# Altium footprint library Connectors.PcbLib: 24 footprints (part 2 of 2)
Each footprint in its own frame and in the unit in brackets; x right, y up, seen from the top. Pads: shape width x height; smd on the part's side, far side on the other; paste and mask are expansions set on the pad; w line width, h text height; cw(c..) or ccw(c..) is an arc to the next point about the centre after c.
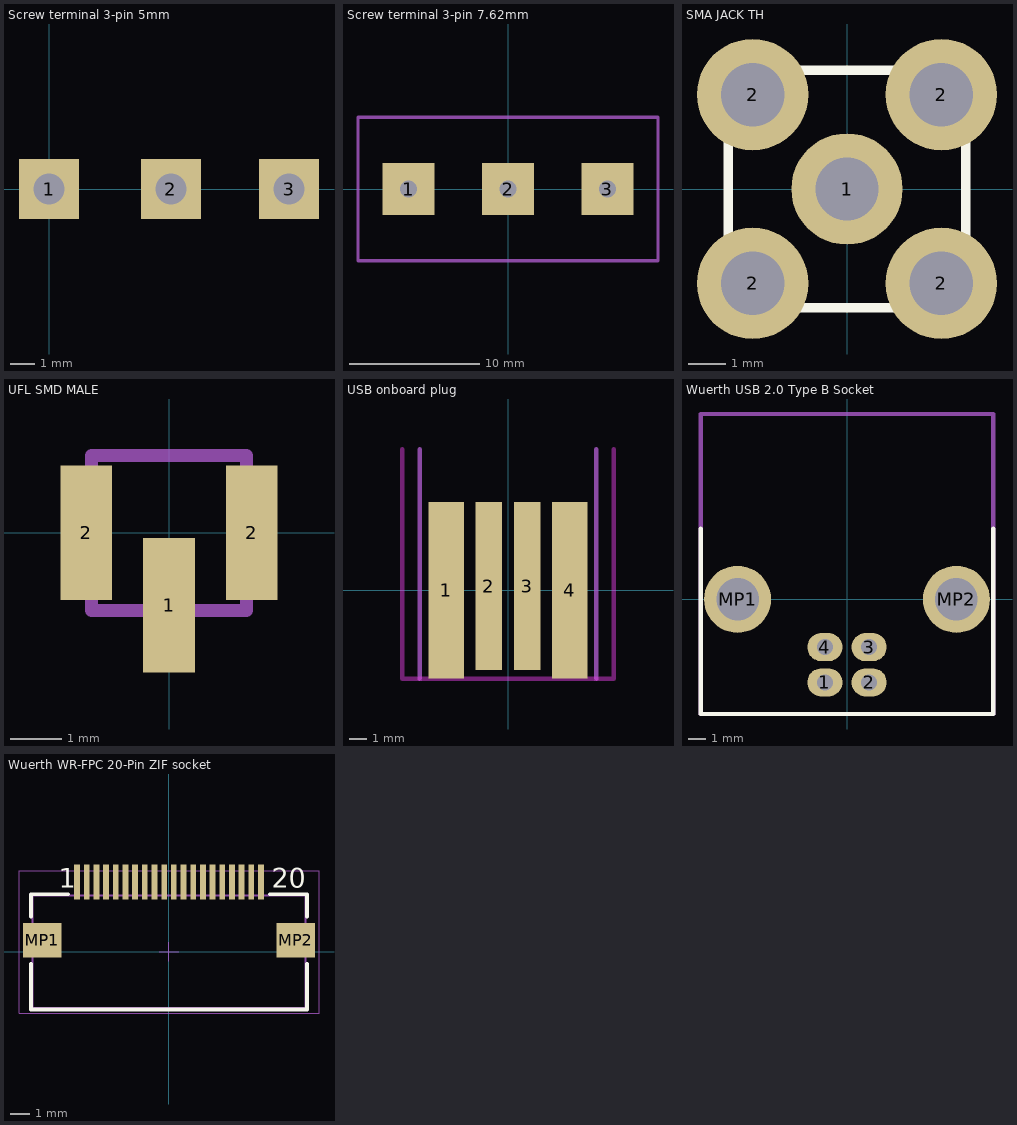
[diagram p1: the footprints below, top view; thin cyan lines are the x and y axes]

## Screw terminal 3-pin 5mm [mm] "DG301-5.0-03"
pads (3):
  rect 2.5x2.5 hole 1.3: 1(0,0) 2(5.08,0) 3(10,0)
3D body: height 10, standoff -4.4, extent -3.05,-3.1 12.55,4.5

## Screw terminal 3-pin 7.62mm [mm]
pads (3):
  rect 4x4 hole 1.3: 1(-7.62,0) 2(0,0) 3(7.62,0)
Mechanical 1:
  lines w0.254: -11.5,-5.5 11.5,-5.5 11.5,5.5 -11.5,5.5 -11.5,-5.5

## SMA JACK TH [mm]
pads (5):
  round 3 hole 1.7: 1(0,0)
  round 3 hole 1.7 mask+0: 2(-2.54,-2.54) 2(-2.54,2.54) 2(2.54,-2.54) 2(2.54,2.54)
Top Overlay:
  lines w0.254: -3.2,-3.2 -3.2,3.2 3.2,3.2 3.2,-3.2 -3.2,-3.2
3D body: height 10, standoff -3.46, extent -3.175,-3.175 3.175,3.175

## SO-DIMM 200PIN [mm]
3D body: height 4.15, standoff -0.65, extent -35.75,-3.12 35.75,23.33

## UFL SMD MALE [mm]
pads (3):
  rect 1x2.6 smd: 1(0,-1.4) 2(-1.6,0) 2(1.6,0)
Mechanical 1:
  lines w0.254: -1.5,-1.5 -1.5,1.5 1.5,1.5 1.5,-1.5 -1.5,-1.5

## USB onboard plug [mm]
pads (4):
  rect 2x10 smd: 1(-3.5,0) 4(3.5,0)
  rect 1.5x9.5 smd: 2(-1.1,0.25) 3(1.1,0.25)
Keep-Out Layer:
  lines w0.254: -6,8 -6,-5 6,-5 6,8
Mechanical 1:
  lines w0.254: -5,-5 -5,8 ; 5,-5 5,8

## Wuerth USB 2.0 Type B Socket [mm]
pads (6):
  oval 2x1.6 hole 0.9: 1(-1.25,-4.71) 2(1.25,-4.71) 3(1.25,-2.71) 4(-1.25,-2.71)
  round 3.8 hole 2.4: MP1(-6.2,0) MP2(6.2,0)
Top Overlay:
  lines w0.254: -8.3,4 -8.3,-6.5 8.3,-6.5 8.3,4
Mechanical 15:
  lines w0.254: -8.3,-6.5 8.3,-6.5 8.3,10.5 -8.3,10.5 -8.3,-6.5
3D body: height 11.35, standoff -3.51, extent -7.484,-6.24 7.484,10.26

## Wuerth WR-FPC 20-Pin ZIF socket [mm] "Wuerth  687120149022"
pads (22):
  rect 0.3x1.8 smd mask+0: 1(-4.75,3.6) 2(-4.25,3.6) 3(-3.75,3.6) 4(-3.25,3.6) 5(-2.75,3.6) 6(-2.25,3.6) 7(-1.75,3.6) 8(-1.25,3.6) 9(-0.75,3.6) 10(-0.25,3.6) 11(0.25,3.6) 12(0.75,3.6) 13(1.25,3.6) 14(1.75,3.6) 15(2.25,3.6) 16(2.75,3.6) 17(3.25,3.6) 18(3.75,3.6) 19(4.25,3.6) 20(4.75,3.6)
  rect 2x1.8 smd mask+0: MP1(-6.55,0.6) MP2(6.55,0.6)
Top Overlay:
  lines w0.2: -7.125,-0.625 -7.125,-2.975 7.125,-2.975 7.125,-0.625 ; -7.125,1.825 -7.125,2.975 -5.225,2.975 ; 5.225,2.975 7.125,2.975 7.125,1.825
  text "1" at -5.7,3.3 h1.02
  text "20" at 5.3,3.3 h1.02
Mechanical 13:
  lines w0.1: -7.05,-2.9 7.05,-2.9 7.05,2.9 -7.05,2.9 -7.05,-2.9
Mechanical 15:
  lines w0.05: -0.5,0 0.5,0 ; 0,-0.5 0,0.5 ; -7.75,-3.175 7.75,-3.175 7.75,4.2 -7.75,4.2 -7.75,-3.175
3D body: height 2.25, standoff 0, extent -7.05,-2.9 7.05,3.6